# Altium schematic symbol library Power_Metering.SchLib: 2 symbols
Pins are listed as number, name and electrical type; pins without a type are passive.

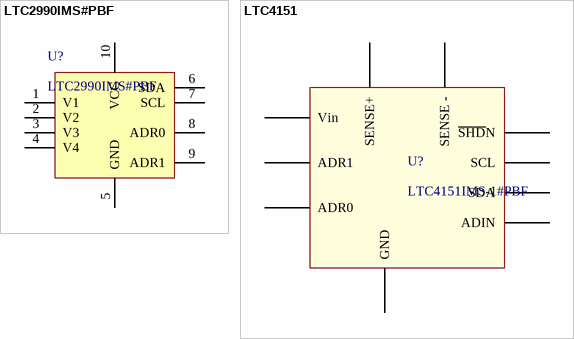
[diagram p0: symbols LTC2990IMS#PBF to LTC4151]

## LTC2990IMS#PBF
designator U?
IC TEMP/VOLT/CUR MONITOR 10MSOP; Manufacturer: Linear Technology; Supplier 1: Farnell; Supplier Part Number 1: 1898629; Manufacturer Part Number: LTC2990IMS#PBF; ComponentLink1URL: http://www.linear.com/docs/29813; ComponentLink1Description: Datasheet
footprint MSOP-10 (MSOP-10 (audran-Mars2017) LTC DWG # 05-08-1661)
pins: 1 V1, 2 V2, 3 V3, 4 V4, 5 GND (power), 6 SDA, 7 SCL, 8 ADR0, 9 ADR1, 10 VCC (power)

## LTC4151
designator U?, comment LTC4151IMS-1#PBF
Moniteur courant/tension I2C; Manufacturer: LINEAR TECHNOLOGY; Supplier 1: Farnell; Supplier Part Number 1: 2295461; Manufacturer Part Number: LTC4151IMS-1#PBF; ComponentLink1URL: http://www.farnell.com/datasheets/1808473.pdf; ComponentLink1Description: Datasheet
footprint MSOP-10 (MSOP-10 (audran-Mars2017) LTC DWG # 05-08-1661)
pins: 1 SENSE+, 2 Vin (power), 3 ADR1, 4 ADR0, 5 ADIN, 6 SCL, 7 SDA, 8 ~{SHD}N, 9 GND (power), 10 SENSE -